# Altium integrated library TI Microcontroller MSP430 16-bit Ultra-Low Power.IntLib: 1463 symbols (part 95 of 130)
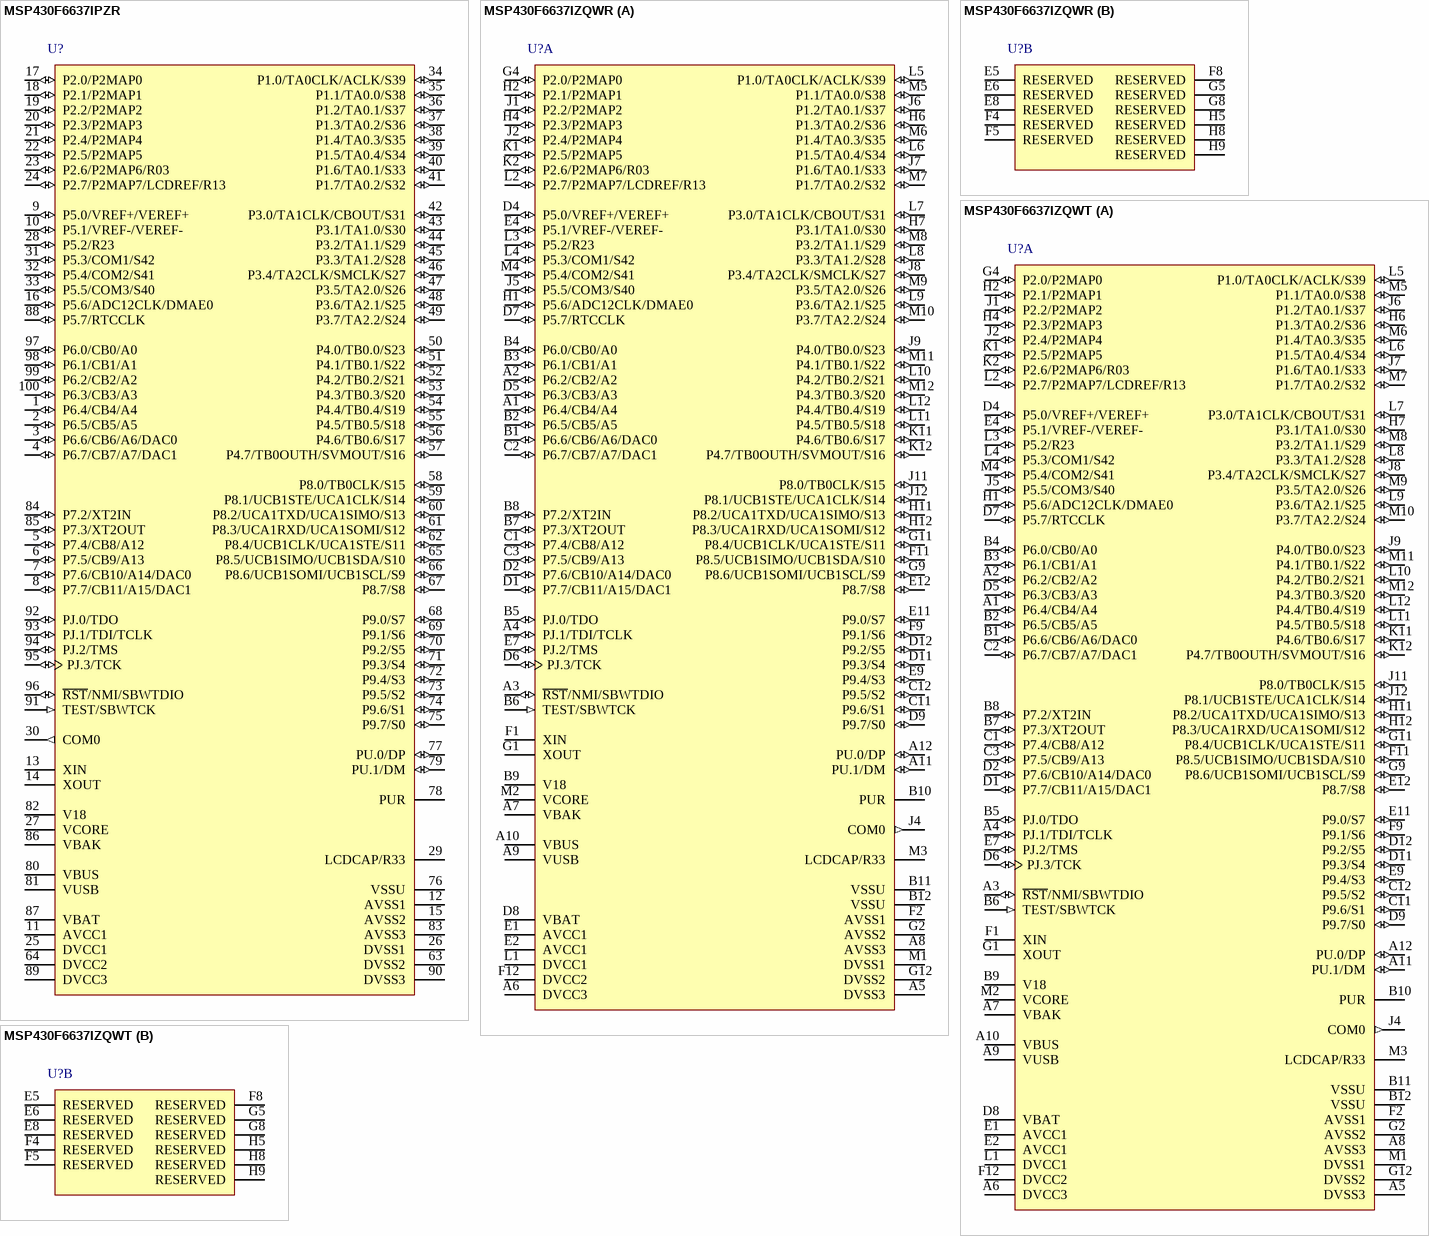
[diagram p283: symbols MSP430F6637IPZR to MSP430F6637IZQWT]

## MSP430F6637IZQWT
designator U?
20 MHz Mixed Signal Microcontroller with 192 KB Flash, 16384 B SRAM and 74 GPIOs, -40 to 85 degC, 113-pin BGA (ZQW), Green (RoHS & no Sb/Br); Manufacturer: Texas Instruments; PartNumber: MSP430F6637IZQWT; ADC: 12-bit SAR; ADC Channels: 16; Brown Out Reset: Yes; DAC: 2; DMA: 3; Flash(KB): 192; Frequency(MHz): 20; GPIO: 74; Multiplier: 32x32; Real-Time Clock: Yes, with battery backup; SRAM(B): 16384; SubFamily: 6 Series with LCD; Timers - 16-bit: 4; USB: 1; DatasheetVersion: SLAS566C; PackageVersion: 4204599-3/D; PackageReference: ZQW113; PackageDescription: 113-Pin Plastic Ball Grid Array Package, Body 7 x 7 mm, Pitch 0.5 mm; Supplier 1: Digi-Key; Supplier Part Number 1: MSP430F6637IZQWR-ND; Supplier 2: Newark; Supplier Part Number 2: 76T6244; Supplier 3: Mouser; Supplier Part Number 3: 595-MSP430F6637IZQWR; Comparators: Yes; Eco-Plan: Green (RoHS & no Sb/Br); SVS: Yes; Temp Sensor: Yes; USCI_A (UART/LIN/IrDA/SPI): 2; USCI_B (I2C & SPI): 2; Watchdog: Yes; Mounting Technology: Surface Mount; Code_JEDEC: MO-225; ComponentLink1Description: Manufacturer URL; ComponentLink1URL: http://www.ti.com/; ComponentLink2Description: Datasheet; ComponentLink2URL: http://www.ti.com/general/docs/lit/getliterature.tsp?genericPartNumber=MSP430F6637&fileType=pdf; ComponentLink3Description: Package Specification; ComponentLink3URL: http://www.ti.com/lit/ml/mpbg674/mpbg674.pdf
footprint TI-ZQW113 (BGA, 113-Balls, Body 7x7mm, Pitch 0.5mm)
part A pins: A1 P6.4/CB4/A4 (io), A2 P6.2/CB2/A2 (io), A3 ~{RST}/NMI/SBWTDIO (io), A4 PJ.1/TDI/TCLK (io), A5 DVSS3 (power) "Digital ground supply", A6 DVCC3 (power) "Digital power supply", A7 VBAK "Capacitor for backup subsystem. Do not load this pin externally. For capacitor values, see CBAK in Recommended Operating Conditions.", A8 AVSS3 (power) "Analog ground supply", A9 VUSB (power) "USB LDO output", A10 VBUS (power) "USB LDO input (connect to USB power source)", A11 PU.1/DM (io), A12 PU.0/DP (io), B1 P6.6/CB6/A6/DAC0 (io), B2 P6.5/CB5/A5 (io), B3 P6.1/CB1/A1 (io), B4 P6.0/CB0/A0 (io), B5 PJ.0/TDO (io), B6 TEST/SBWTCK (in), B7 P7.3/XT2OUT (io), B8 P7.2/XT2IN (io), B9 V18 "USB regulated power (internal use only, no external current loading)", B10 PUR "USB pullup resistor pin (open drain). The voltage level at the PUR pin is used to the default USB BSL. Recommended 1-Mohm resistor to ground.", B11 VSSU (power) "USB PHY ground supply", B12 VSSU (power) "USB PHY ground supply", C1 P7.4/CB8/A12 (io), C2 P6.7/CB7/A7/DAC1 (io), C3 P7.5/CB9/A13 (io), C11 P9.6/S1 (io), C12 P9.5/S2 (io), D1 P7.7/CB11/A15/DAC1 (io), D2 P7.6/CB10/A14/DAC0 (io), D4 P5.0/VREF+/VEREF+ (io), D5 P6.3/CB3/A3 (io), D6 PJ.3/TCK (io), D7 P5.7/RTCCLK (io), D8 VBAT (power) "Backup or secondary supply voltage. If backup voltage is not supplied, connect to DVCC externally.", D9 P9.7/S0 (io), D11 P9.3/S4 (io), D12 P9.2/S5 (io), E1 AVCC1 (power) "Analog power supply", E2 AVCC1 (power) "Analog power supply", E4 P5.1/VREF-/VEREF- (io), E7 PJ.2/TMS (io), E9 P9.4/S3 (io), E11 P9.0/S7 (io), E12 P8.7/S8 (io), F1 XIN "Input terminal for crystal oscillator XT1", F2 AVSS1 (power) "Analog ground supply", F9 P9.1/S6 (io), F11 P8.5/UCB1SIMO/UCB1SDA/S10 (io), F12 DVCC2 (power) "Digital power supply", G1 XOUT "Output terminal of crystal oscillator XT1", G2 AVSS2 (power) "Analog ground supply", G4 P2.0/P2MAP0 (io), G9 P8.6/UCB1SOMI/UCB1SCL/S9 (io), G11 P8.4/UCB1CLK/UCA1STE/S11 (io), G12 DVSS2 (power) "Digital ground supply", H1 P5.6/ADC12CLK/DMAE0 (io), H2 P2.1/P2MAP1 (io), H4 P2.3/P2MAP3 (io), H6 P1.3/TA0.2/S36 (io), H7 P3.1/TA1.0/S30 (io), H11 P8.2/UCA1TXD/UCA1SIMO/S13 (io), H12 P8.3/UCA1RXD/UCA1SOMI/S12 (io), J1 P2.2/P2MAP2 (io), J2 P2.4/P2MAP4 (io), J4 COM0 (out) "LCD common output COM0 for LCD backplane", J5 P5.5/COM3/S40 (io), J6 P1.2/TA0.1/S37 (io), J7 P1.6/TA0.1/S33 (io), J8 P3.4/TA2CLK/SMCLK/S27 (io), J9 P4.0/TB0.0/S23 (io), J11 P8.0/TB0CLK/S15 (io), J12 P8.1/UCB1STE/UCA1CLK/S14 (io), K1 P2.5/P2MAP5 (io), K2 P2.6/P2MAP6/R03 (io), K11 P4.6/TB0.6/S17 (io), K12 P4.7/TB0OUTH/SVMOUT/S16 (io), L1 DVCC1 (power) "Digital power supply", L2 P2.7/P2MAP7/LCDREF/R13 (io), L3 P5.2/R23 (io), L4 P5.3/COM1/S42 (io), L5 P1.0/TA0CLK/ACLK/S39 (io), L6 P1.5/TA0.4/S34 (io), L7 P3.0/TA1CLK/CBOUT/S31 (io), L8 P3.3/TA1.2/S28 (io), L9 P3.6/TA2.1/S25 (io), L10 P4.2/TB0.2/S21 (io), L11 P4.5/TB0.5/S18 (io), L12 P4.4/TB0.4/S19 (io), M1 DVSS1 (power) "Digital ground supply", M2 VCORE "Regulated core power supply (internal use only, no external current loading)", M3 LCDCAP/R33, M4 P5.4/COM2/S41 (io), M5 P1.1/TA0.0/S38 (io), M6 P1.4/TA0.3/S35 (io), M7 P1.7/TA0.2/S32 (io), M8 P3.2/TA1.1/S29 (io), M9 P3.5/TA2.0/S26 (io), M10 P3.7/TA2.2/S24 (io), M11 P4.1/TB0.1/S22 (io), M12 P4.3/TB0.3/S20 (io)
part B pins: E5 RESERVED "Reserved. It is recommended to connect to ground (DVSS, AVSS).", E6 RESERVED "Reserved. It is recommended to connect to ground (DVSS, AVSS).", E8 RESERVED "Reserved. It is recommended to connect to ground (DVSS, AVSS).", F4 RESERVED "Reserved. It is recommended to connect to ground (DVSS, AVSS).", F5 RESERVED "Reserved. It is recommended to connect to ground (DVSS, AVSS).", F8 RESERVED "Reserved. It is recommended to connect to ground (DVSS, AVSS).", G5 RESERVED "Reserved. It is recommended to connect to ground (DVSS, AVSS).", G8 RESERVED "Reserved. It is recommended to connect to ground (DVSS, AVSS).", H5 RESERVED "Reserved. It is recommended to connect to ground (DVSS, AVSS).", H8 RESERVED "Reserved. It is recommended to connect to ground (DVSS, AVSS).", H9 RESERVED "Reserved. It is recommended to connect to ground (DVSS, AVSS)."

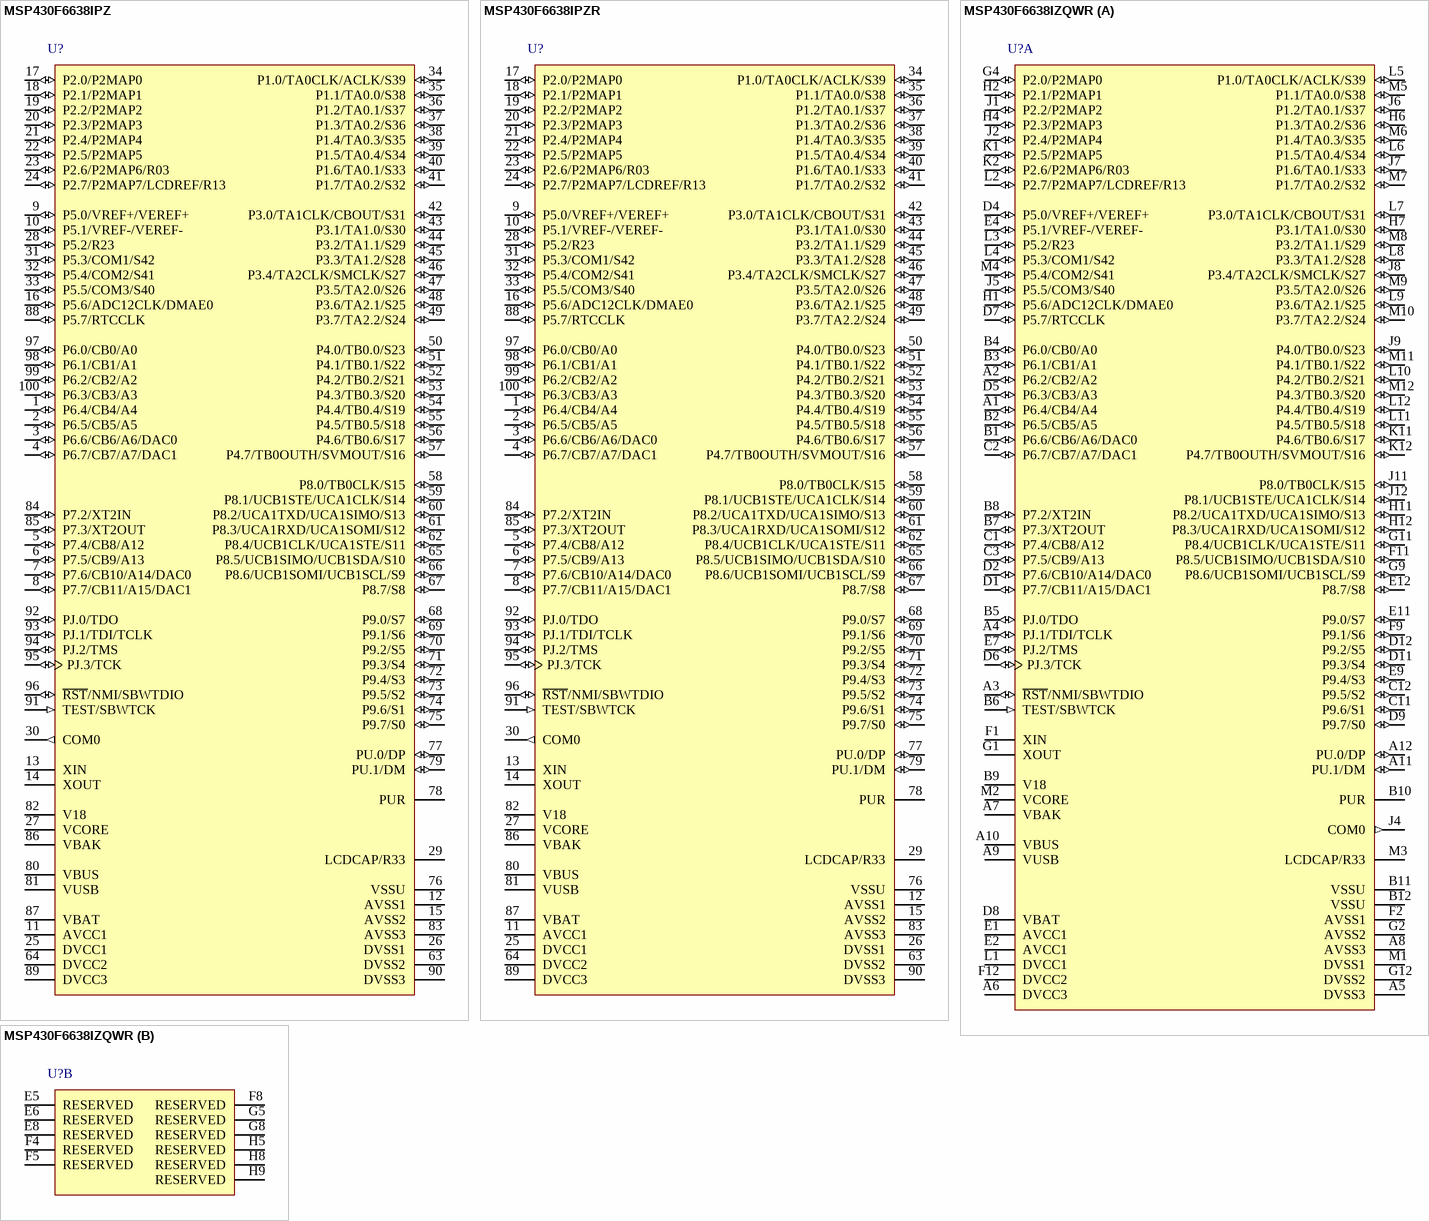
[diagram p154: symbols MSP430F6638IPZ to MSP430F6638IZQWR]

## MSP430F6638IPZ
designator U?
20 MHz Mixed Signal Microcontroller with 256 KB Flash, 16384 B SRAM and 74 GPIOs, -40 to 85 degC, 100-pin QFP (PZ), Green (RoHS & no Sb/Br); Manufacturer: Texas Instruments; PartNumber: MSP430F6638IPZ; ADC: 12-bit SAR; ADC Channels: 16; Brown Out Reset: Yes; DAC: 2; DMA: 3; Flash(KB): 256; Frequency(MHz): 20; GPIO: 74; Multiplier: 32x32; Real-Time Clock: Yes, with battery backup; SRAM(B): 16384; SubFamily: 6 Series with LCD; Timers - 16-bit: 4; USB: 1; DatasheetVersion: SLAS566C; PackageVersion: 4040149/B; PackageReference: PZ100; PackageDescription: 100-Pin Plastic Flat Pack, Body 14 x 14 mm, Pitch 0.5 mm; Supplier 1: Mouser; Supplier Part Number 1: N/A; Comparators: Yes; Eco-Plan: Green (RoHS & no Sb/Br); SVS: Yes; Temp Sensor: Yes; USCI_A (UART/LIN/IrDA/SPI): 2; USCI_B (I2C & SPI): 2; Watchdog: Yes; Mounting Technology: Surface Mount; Code_JEDEC: MS-026; ComponentLink1Description: Manufacturer URL; ComponentLink1URL: http://www.ti.com/; ComponentLink2Description: Datasheet; ComponentLink2URL: http://www.ti.com/general/docs/lit/getliterature.tsp?genericPartNumber=MSP430F6638&fileType=pdf; ComponentLink3Description: Package Specification; ComponentLink3URL: http://www.ti.com/lit/ml/mtqf013a/mtqf013a.pdf
footprint TI-PZ100_N (QFP, 100-Leads, Body 14x14mm, Pitch 0.5mm, IPC Medium Density)
pins: 1 P6.4/CB4/A4 (io), 2 P6.5/CB5/A5 (io), 3 P6.6/CB6/A6/DAC0 (io), 4 P6.7/CB7/A7/DAC1 (io), 5 P7.4/CB8/A12 (io), 6 P7.5/CB9/A13 (io), 7 P7.6/CB10/A14/DAC0 (io), 8 P7.7/CB11/A15/DAC1 (io), 9 P5.0/VREF+/VEREF+ (io), 10 P5.1/VREF-/VEREF- (io), 11 AVCC1 (power) "Analog power supply", 12 AVSS1 (power) "Analog ground supply", 13 XIN "Input terminal for crystal oscillator XT1", 14 XOUT "Output terminal of crystal oscillator XT1", 15 AVSS2 (power) "Analog ground supply", 16 P5.6/ADC12CLK/DMAE0 (io), 17 P2.0/P2MAP0 (io), 18 P2.1/P2MAP1 (io), 19 P2.2/P2MAP2 (io), 20 P2.3/P2MAP3 (io), 21 P2.4/P2MAP4 (io), 22 P2.5/P2MAP5 (io), 23 P2.6/P2MAP6/R03 (io), 24 P2.7/P2MAP7/LCDREF/R13 (io), 25 DVCC1 (power) "Digital power supply", 26 DVSS1 (power) "Digital ground supply", 27 VCORE "Regulated core power supply (internal use only, no external current loading)", 28 P5.2/R23 (io), 29 LCDCAP/R33, 30 COM0 (out) "LCD common output COM0 for LCD backplane", 31 P5.3/COM1/S42 (io), 32 P5.4/COM2/S41 (io), 33 P5.5/COM3/S40 (io), 34 P1.0/TA0CLK/ACLK/S39 (io), 35 P1.1/TA0.0/S38 (io), 36 P1.2/TA0.1/S37 (io), 37 P1.3/TA0.2/S36 (io), 38 P1.4/TA0.3/S35 (io), 39 P1.5/TA0.4/S34 (io), 40 P1.6/TA0.1/S33 (io), 41 P1.7/TA0.2/S32 (io), 42 P3.0/TA1CLK/CBOUT/S31 (io), 43 P3.1/TA1.0/S30 (io), 44 P3.2/TA1.1/S29 (io), 45 P3.3/TA1.2/S28 (io), 46 P3.4/TA2CLK/SMCLK/S27 (io), 47 P3.5/TA2.0/S26 (io), 48 P3.6/TA2.1/S25 (io), 49 P3.7/TA2.2/S24 (io), 50 P4.0/TB0.0/S23 (io), 51 P4.1/TB0.1/S22 (io), 52 P4.2/TB0.2/S21 (io), 53 P4.3/TB0.3/S20 (io), 54 P4.4/TB0.4/S19 (io), 55 P4.5/TB0.5/S18 (io), 56 P4.6/TB0.6/S17 (io), 57 P4.7/TB0OUTH/SVMOUT/S16 (io), 58 P8.0/TB0CLK/S15 (io), 59 P8.1/UCB1STE/UCA1CLK/S14 (io), 60 P8.2/UCA1TXD/UCA1SIMO/S13 (io), 61 P8.3/UCA1RXD/UCA1SOMI/S12 (io), 62 P8.4/UCB1CLK/UCA1STE/S11 (io), 63 DVSS2 (power) "Digital ground supply", 64 DVCC2 (power) "Digital power supply", 65 P8.5/UCB1SIMO/UCB1SDA/S10 (io), 66 P8.6/UCB1SOMI/UCB1SCL/S9 (io), 67 P8.7/S8 (io), 68 P9.0/S7 (io), 69 P9.1/S6 (io), 70 P9.2/S5 (io), 71 P9.3/S4 (io), 72 P9.4/S3 (io), 73 P9.5/S2 (io), 74 P9.6/S1 (io), 75 P9.7/S0 (io), 76 VSSU (power) "USB PHY ground supply", 77 PU.0/DP (io), 78 PUR "USB pullup resistor pin (open drain). The voltage level at the PUR pin is used to PUR pin is used to invoke the default USB BSL. Recommended 1-Mohm resistor to ground.", 79 PU.1/DM (io), 80 VBUS (power) "USB LDO input (connect to USB power source)", 81 VUSB (power) "USB LDO output", 82 V18 "USB regulated power (internal use only, no external current loading)", 83 AVSS3 (power) "Analog ground supply", 84 P7.2/XT2IN (io), 85 P7.3/XT2OUT (io), 86 VBAK "Capacitor for backup subsystem. Do not load this pin externally. For capacitor values, see CBAK in Recommended Operating Conditions.", 87 VBAT (power) "Backup or secondary supply voltage. If backup voltage is not supplied, connect to DVCC externally.", 88 P5.7/RTCCLK (io), 89 DVCC3 (power) "Digital power supply", 90 DVSS3 (power) "Digital ground supply", 91 TEST/SBWTCK (in), 92 PJ.0/TDO (io), 93 PJ.1/TDI/TCLK (io), 94 PJ.2/TMS (io), 95 PJ.3/TCK (io), 96 ~{RST}/NMI/SBWTDIO (io), 97 P6.0/CB0/A0 (io), 98 P6.1/CB1/A1 (io), 99 P6.2/CB2/A2 (io), 100 P6.3/CB3/A3 (io)

## MSP430F6638IPZR
designator U?
20 MHz Mixed Signal Microcontroller with 256 KB Flash, 16384 B SRAM and 74 GPIOs, -40 to 85 degC, 100-pin QFP (PZ), Green (RoHS & no Sb/Br); Manufacturer: Texas Instruments; PartNumber: MSP430F6638IPZR; ADC: 12-bit SAR; ADC Channels: 16; Brown Out Reset: Yes; DAC: 2; DMA: 3; Flash(KB): 256; Frequency(MHz): 20; GPIO: 74; Multiplier: 32x32; Real-Time Clock: Yes, with battery backup; SRAM(B): 16384; SubFamily: 6 Series with LCD; Timers - 16-bit: 4; USB: 1; DatasheetVersion: SLAS566C; PackageVersion: 4040149/B; PackageReference: PZ100; PackageDescription: 100-Pin Plastic Flat Pack, Body 14 x 14 mm, Pitch 0.5 mm; Supplier 1: Digi-Key; Supplier Part Number 1: MSP430F6638IPZ-ND; Supplier 2: Newark; Supplier Part Number 2: 21T2329; Supplier 3: Mouser; Supplier Part Number 3: 595-MSP430F6638IPZ; Comparators: Yes; Eco-Plan: Green (RoHS & no Sb/Br); SVS: Yes; Temp Sensor: Yes; USCI_A (UART/LIN/IrDA/SPI): 2; USCI_B (I2C & SPI): 2; Watchdog: Yes; Mounting Technology: Surface Mount; Code_JEDEC: MS-026; ComponentLink1Description: Manufacturer URL; ComponentLink1URL: http://www.ti.com/; ComponentLink2Description: Datasheet; ComponentLink2URL: http://www.ti.com/general/docs/lit/getliterature.tsp?genericPartNumber=MSP430F6638&fileType=pdf; ComponentLink3Description: Package Specification; ComponentLink3URL: http://www.ti.com/lit/ml/mtqf013a/mtqf013a.pdf
footprint TI-PZ100_N (QFP, 100-Leads, Body 14x14mm, Pitch 0.5mm, IPC Medium Density)
pins: 1 P6.4/CB4/A4 (io), 2 P6.5/CB5/A5 (io), 3 P6.6/CB6/A6/DAC0 (io), 4 P6.7/CB7/A7/DAC1 (io), 5 P7.4/CB8/A12 (io), 6 P7.5/CB9/A13 (io), 7 P7.6/CB10/A14/DAC0 (io), 8 P7.7/CB11/A15/DAC1 (io), 9 P5.0/VREF+/VEREF+ (io), 10 P5.1/VREF-/VEREF- (io), 11 AVCC1 (power) "Analog power supply", 12 AVSS1 (power) "Analog ground supply", 13 XIN "Input terminal for crystal oscillator XT1", 14 XOUT "Output terminal of crystal oscillator XT1", 15 AVSS2 (power) "Analog ground supply", 16 P5.6/ADC12CLK/DMAE0 (io), 17 P2.0/P2MAP0 (io), 18 P2.1/P2MAP1 (io), 19 P2.2/P2MAP2 (io), 20 P2.3/P2MAP3 (io), 21 P2.4/P2MAP4 (io), 22 P2.5/P2MAP5 (io), 23 P2.6/P2MAP6/R03 (io), 24 P2.7/P2MAP7/LCDREF/R13 (io), 25 DVCC1 (power) "Digital power supply", 26 DVSS1 (power) "Digital ground supply", 27 VCORE "Regulated core power supply (internal use only, no external current loading)", 28 P5.2/R23 (io), 29 LCDCAP/R33, 30 COM0 (out) "LCD common output COM0 for LCD backplane", 31 P5.3/COM1/S42 (io), 32 P5.4/COM2/S41 (io), 33 P5.5/COM3/S40 (io), 34 P1.0/TA0CLK/ACLK/S39 (io), 35 P1.1/TA0.0/S38 (io), 36 P1.2/TA0.1/S37 (io), 37 P1.3/TA0.2/S36 (io), 38 P1.4/TA0.3/S35 (io), 39 P1.5/TA0.4/S34 (io), 40 P1.6/TA0.1/S33 (io), 41 P1.7/TA0.2/S32 (io), 42 P3.0/TA1CLK/CBOUT/S31 (io), 43 P3.1/TA1.0/S30 (io), 44 P3.2/TA1.1/S29 (io), 45 P3.3/TA1.2/S28 (io), 46 P3.4/TA2CLK/SMCLK/S27 (io), 47 P3.5/TA2.0/S26 (io), 48 P3.6/TA2.1/S25 (io), 49 P3.7/TA2.2/S24 (io), 50 P4.0/TB0.0/S23 (io), 51 P4.1/TB0.1/S22 (io), 52 P4.2/TB0.2/S21 (io), 53 P4.3/TB0.3/S20 (io), 54 P4.4/TB0.4/S19 (io), 55 P4.5/TB0.5/S18 (io), 56 P4.6/TB0.6/S17 (io), 57 P4.7/TB0OUTH/SVMOUT/S16 (io), 58 P8.0/TB0CLK/S15 (io), 59 P8.1/UCB1STE/UCA1CLK/S14 (io), 60 P8.2/UCA1TXD/UCA1SIMO/S13 (io), 61 P8.3/UCA1RXD/UCA1SOMI/S12 (io), 62 P8.4/UCB1CLK/UCA1STE/S11 (io), 63 DVSS2 (power) "Digital ground supply", 64 DVCC2 (power) "Digital power supply", 65 P8.5/UCB1SIMO/UCB1SDA/S10 (io), 66 P8.6/UCB1SOMI/UCB1SCL/S9 (io), 67 P8.7/S8 (io), 68 P9.0/S7 (io), 69 P9.1/S6 (io), 70 P9.2/S5 (io), 71 P9.3/S4 (io), 72 P9.4/S3 (io), 73 P9.5/S2 (io), 74 P9.6/S1 (io), 75 P9.7/S0 (io), 76 VSSU (power) "USB PHY ground supply", 77 PU.0/DP (io), 78 PUR "USB pullup resistor pin (open drain). The voltage level at the PUR pin is used to PUR pin is used to invoke the default USB BSL. Recommended 1-Mohm resistor to ground.", 79 PU.1/DM (io), 80 VBUS (power) "USB LDO input (connect to USB power source)", 81 VUSB (power) "USB LDO output", 82 V18 "USB regulated power (internal use only, no external current loading)", 83 AVSS3 (power) "Analog ground supply", 84 P7.2/XT2IN (io), 85 P7.3/XT2OUT (io), 86 VBAK "Capacitor for backup subsystem. Do not load this pin externally. For capacitor values, see CBAK in Recommended Operating Conditions.", 87 VBAT (power) "Backup or secondary supply voltage. If backup voltage is not supplied, connect to DVCC externally.", 88 P5.7/RTCCLK (io), 89 DVCC3 (power) "Digital power supply", 90 DVSS3 (power) "Digital ground supply", 91 TEST/SBWTCK (in), 92 PJ.0/TDO (io), 93 PJ.1/TDI/TCLK (io), 94 PJ.2/TMS (io), 95 PJ.3/TCK (io), 96 ~{RST}/NMI/SBWTDIO (io), 97 P6.0/CB0/A0 (io), 98 P6.1/CB1/A1 (io), 99 P6.2/CB2/A2 (io), 100 P6.3/CB3/A3 (io)

## MSP430F6638IZQWR
designator U?
20 MHz Mixed Signal Microcontroller with 256 KB Flash, 16384 B SRAM and 74 GPIOs, -40 to 85 degC, 113-pin BGA (ZQW), Green (RoHS & no Sb/Br); Manufacturer: Texas Instruments; PartNumber: MSP430F6638IZQWR; ADC: 12-bit SAR; ADC Channels: 16; Brown Out Reset: Yes; DAC: 2; DMA: 3; Flash(KB): 256; Frequency(MHz): 20; GPIO: 74; Multiplier: 32x32; Real-Time Clock: Yes, with battery backup; SRAM(B): 16384; SubFamily: 6 Series with LCD; Timers - 16-bit: 4; USB: 1; DatasheetVersion: SLAS566C; PackageVersion: 4204599-3/D; PackageReference: ZQW113; PackageDescription: 113-Pin Plastic Ball Grid Array Package, Body 7 x 7 mm, Pitch 0.5 mm; Supplier 1: Digi-Key; Supplier Part Number 1: 296-29470-2-ND; Supplier 2: Digi-Key; Supplier Part Number 2: 296-29470-1-ND; Supplier 3: Digi-Key; Supplier Part Number 3: 296-29470-6-ND; Supplier 4: Farnell; Supplier Part Number 4: 2070274; Supplier 5: Newark; Supplier Part Number 5: 73T9353; Supplier 6: Newark; Supplier Part Number 6: 13T4431; Supplier 7: Mouser; Supplier Part Number 7: 595-MSP430F6638IPZR; Comparators: Yes; Eco-Plan: Green (RoHS & no Sb/Br); SVS: Yes; Temp Sensor: Yes; USCI_A (UART/LIN/IrDA/SPI): 2; USCI_B (I2C & SPI): 2; Watchdog: Yes; Mounting Technology: Surface Mount; Code_JEDEC: MO-225; ComponentLink1Description: Manufacturer URL; ComponentLink1URL: http://www.ti.com/; ComponentLink2Description: Datasheet; ComponentLink2URL: http://www.ti.com/general/docs/lit/getliterature.tsp?genericPartNumber=MSP430F6638&fileType=pdf; ComponentLink3Description: Package Specification; ComponentLink3URL: http://www.ti.com/lit/ml/mpbg674/mpbg674.pdf
footprint TI-ZQW113 (BGA, 113-Balls, Body 7x7mm, Pitch 0.5mm)
part A pins: A1 P6.4/CB4/A4 (io), A2 P6.2/CB2/A2 (io), A3 ~{RST}/NMI/SBWTDIO (io), A4 PJ.1/TDI/TCLK (io), A5 DVSS3 (power) "Digital ground supply", A6 DVCC3 (power) "Digital power supply", A7 VBAK "Capacitor for backup subsystem. Do not load this pin externally. For capacitor values, see CBAK in Recommended Operating Conditions.", A8 AVSS3 (power) "Analog ground supply", A9 VUSB (power) "USB LDO output", A10 VBUS (power) "USB LDO input (connect to USB power source)", A11 PU.1/DM (io), A12 PU.0/DP (io), B1 P6.6/CB6/A6/DAC0 (io), B2 P6.5/CB5/A5 (io), B3 P6.1/CB1/A1 (io), B4 P6.0/CB0/A0 (io), B5 PJ.0/TDO (io), B6 TEST/SBWTCK (in), B7 P7.3/XT2OUT (io), B8 P7.2/XT2IN (io), B9 V18 "USB regulated power (internal use only, no external current loading)", B10 PUR "USB pullup resistor pin (open drain). The voltage level at the PUR pin is used to the default USB BSL. Recommended 1-Mohm resistor to ground.", B11 VSSU (power) "USB PHY ground supply", B12 VSSU (power) "USB PHY ground supply", C1 P7.4/CB8/A12 (io), C2 P6.7/CB7/A7/DAC1 (io), C3 P7.5/CB9/A13 (io), C11 P9.6/S1 (io), C12 P9.5/S2 (io), D1 P7.7/CB11/A15/DAC1 (io), D2 P7.6/CB10/A14/DAC0 (io), D4 P5.0/VREF+/VEREF+ (io), D5 P6.3/CB3/A3 (io), D6 PJ.3/TCK (io), D7 P5.7/RTCCLK (io), D8 VBAT (power) "Backup or secondary supply voltage. If backup voltage is not supplied, connect to DVCC externally.", D9 P9.7/S0 (io), D11 P9.3/S4 (io), D12 P9.2/S5 (io), E1 AVCC1 (power) "Analog power supply", E2 AVCC1 (power) "Analog power supply", E4 P5.1/VREF-/VEREF- (io), E7 PJ.2/TMS (io), E9 P9.4/S3 (io), E11 P9.0/S7 (io), E12 P8.7/S8 (io), F1 XIN "Input terminal for crystal oscillator XT1", F2 AVSS1 (power) "Analog ground supply", F9 P9.1/S6 (io), F11 P8.5/UCB1SIMO/UCB1SDA/S10 (io), F12 DVCC2 (power) "Digital power supply", G1 XOUT "Output terminal of crystal oscillator XT1", G2 AVSS2 (power) "Analog ground supply", G4 P2.0/P2MAP0 (io), G9 P8.6/UCB1SOMI/UCB1SCL/S9 (io), G11 P8.4/UCB1CLK/UCA1STE/S11 (io), G12 DVSS2 (power) "Digital ground supply", H1 P5.6/ADC12CLK/DMAE0 (io), H2 P2.1/P2MAP1 (io), H4 P2.3/P2MAP3 (io), H6 P1.3/TA0.2/S36 (io), H7 P3.1/TA1.0/S30 (io), H11 P8.2/UCA1TXD/UCA1SIMO/S13 (io), H12 P8.3/UCA1RXD/UCA1SOMI/S12 (io), J1 P2.2/P2MAP2 (io), J2 P2.4/P2MAP4 (io), J4 COM0 (out) "LCD common output COM0 for LCD backplane", J5 P5.5/COM3/S40 (io), J6 P1.2/TA0.1/S37 (io), J7 P1.6/TA0.1/S33 (io), J8 P3.4/TA2CLK/SMCLK/S27 (io), J9 P4.0/TB0.0/S23 (io), J11 P8.0/TB0CLK/S15 (io), J12 P8.1/UCB1STE/UCA1CLK/S14 (io), K1 P2.5/P2MAP5 (io), K2 P2.6/P2MAP6/R03 (io), K11 P4.6/TB0.6/S17 (io), K12 P4.7/TB0OUTH/SVMOUT/S16 (io), L1 DVCC1 (power) "Digital power supply", L2 P2.7/P2MAP7/LCDREF/R13 (io), L3 P5.2/R23 (io), L4 P5.3/COM1/S42 (io), L5 P1.0/TA0CLK/ACLK/S39 (io), L6 P1.5/TA0.4/S34 (io), L7 P3.0/TA1CLK/CBOUT/S31 (io), L8 P3.3/TA1.2/S28 (io), L9 P3.6/TA2.1/S25 (io), L10 P4.2/TB0.2/S21 (io), L11 P4.5/TB0.5/S18 (io), L12 P4.4/TB0.4/S19 (io), M1 DVSS1 (power) "Digital ground supply", M2 VCORE "Regulated core power supply (internal use only, no external current loading)", M3 LCDCAP/R33, M4 P5.4/COM2/S41 (io), M5 P1.1/TA0.0/S38 (io), M6 P1.4/TA0.3/S35 (io), M7 P1.7/TA0.2/S32 (io), M8 P3.2/TA1.1/S29 (io), M9 P3.5/TA2.0/S26 (io), M10 P3.7/TA2.2/S24 (io), M11 P4.1/TB0.1/S22 (io), M12 P4.3/TB0.3/S20 (io)
part B pins: E5 RESERVED "Reserved. It is recommended to connect to ground (DVSS, AVSS).", E6 RESERVED "Reserved. It is recommended to connect to ground (DVSS, AVSS).", E8 RESERVED "Reserved. It is recommended to connect to ground (DVSS, AVSS).", F4 RESERVED "Reserved. It is recommended to connect to ground (DVSS, AVSS).", F5 RESERVED "Reserved. It is recommended to connect to ground (DVSS, AVSS).", F8 RESERVED "Reserved. It is recommended to connect to ground (DVSS, AVSS).", G5 RESERVED "Reserved. It is recommended to connect to ground (DVSS, AVSS).", G8 RESERVED "Reserved. It is recommended to connect to ground (DVSS, AVSS).", H5 RESERVED "Reserved. It is recommended to connect to ground (DVSS, AVSS).", H8 RESERVED "Reserved. It is recommended to connect to ground (DVSS, AVSS).", H9 RESERVED "Reserved. It is recommended to connect to ground (DVSS, AVSS)."

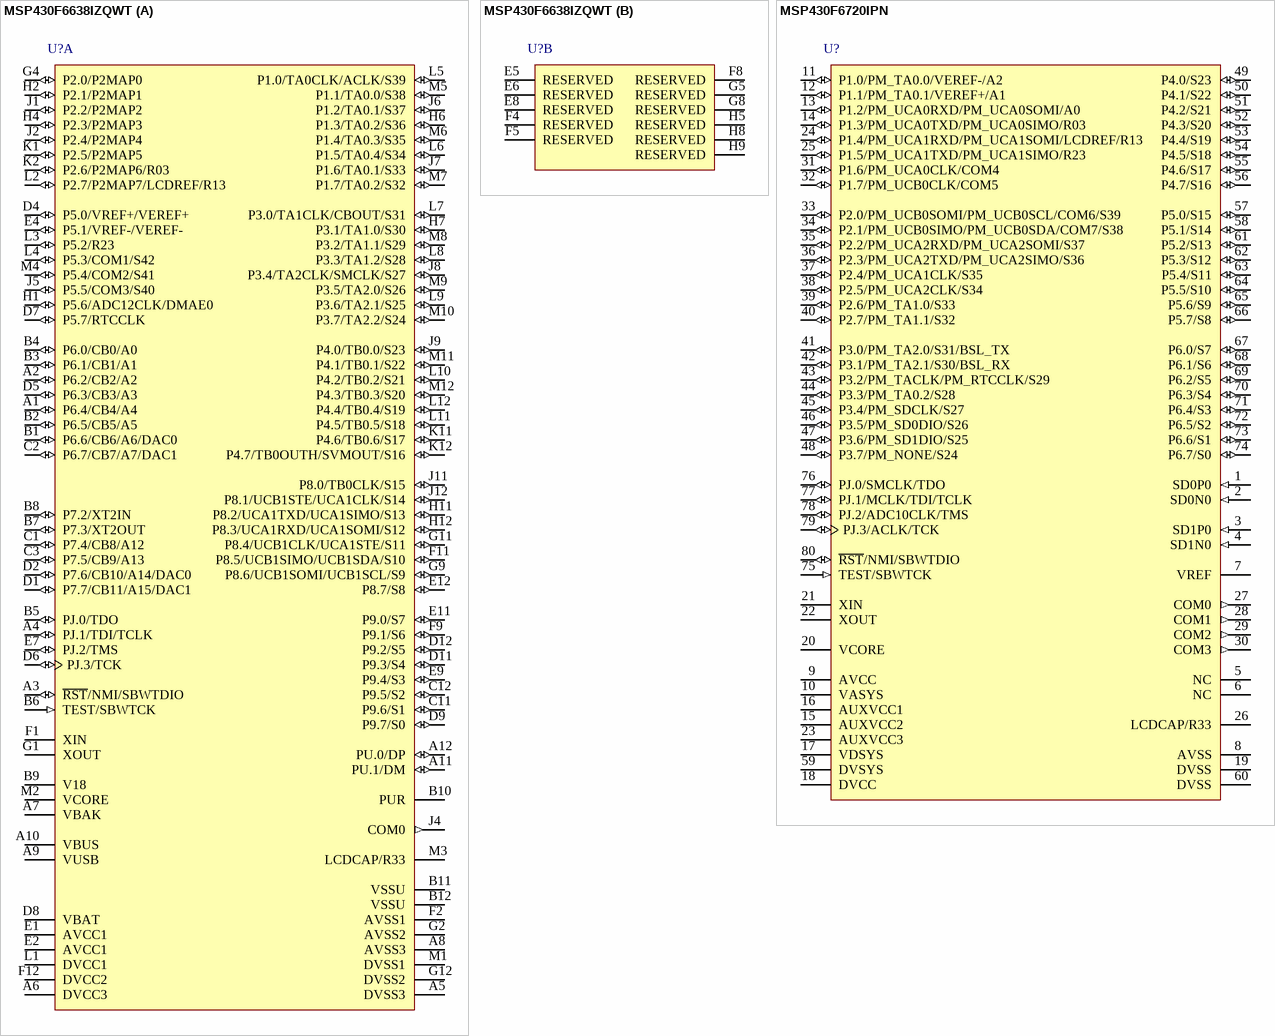
[diagram p155: symbols MSP430F6638IZQWT to MSP430F6720IPN]

## MSP430F6638IZQWT
designator U?
20 MHz Mixed Signal Microcontroller with 256 KB Flash, 16384 B SRAM and 74 GPIOs, -40 to 85 degC, 113-pin BGA (ZQW), Green (RoHS & no Sb/Br); Manufacturer: Texas Instruments; PartNumber: MSP430F6638IZQWT; ADC: 12-bit SAR; ADC Channels: 16; Brown Out Reset: Yes; DAC: 2; DMA: 3; Flash(KB): 256; Frequency(MHz): 20; GPIO: 74; Multiplier: 32x32; Real-Time Clock: Yes, with battery backup; SRAM(B): 16384; SubFamily: 6 Series with LCD; Timers - 16-bit: 4; USB: 1; DatasheetVersion: SLAS566C; PackageVersion: 4204599-3/D; PackageReference: ZQW113; PackageDescription: 113-Pin Plastic Ball Grid Array Package, Body 7 x 7 mm, Pitch 0.5 mm; Supplier 1: Digi-Key; Supplier Part Number 1: 296-29471-2-ND; Supplier 2: Digi-Key; Supplier Part Number 2: 296-29471-1-ND; Supplier 3: Digi-Key; Supplier Part Number 3: 296-29471-6-ND; Supplier 4: Farnell; Supplier Part Number 4: 2070271; Supplier 5: Newark; Supplier Part Number 5: 21T2331; Supplier 6: Mouser; Supplier Part Number 6: 595-MSP430F6638IZQWR; Comparators: Yes; Eco-Plan: Green (RoHS & no Sb/Br); SVS: Yes; Temp Sensor: Yes; USCI_A (UART/LIN/IrDA/SPI): 2; USCI_B (I2C & SPI): 2; Watchdog: Yes; Mounting Technology: Surface Mount; Code_JEDEC: MO-225; ComponentLink1Description: Manufacturer URL; ComponentLink1URL: http://www.ti.com/; ComponentLink2Description: Datasheet; ComponentLink2URL: http://www.ti.com/general/docs/lit/getliterature.tsp?genericPartNumber=MSP430F6638&fileType=pdf; ComponentLink3Description: Package Specification; ComponentLink3URL: http://www.ti.com/lit/ml/mpbg674/mpbg674.pdf
footprint TI-ZQW113 (BGA, 113-Balls, Body 7x7mm, Pitch 0.5mm)
part A pins: A1 P6.4/CB4/A4 (io), A2 P6.2/CB2/A2 (io), A3 ~{RST}/NMI/SBWTDIO (io), A4 PJ.1/TDI/TCLK (io), A5 DVSS3 (power) "Digital ground supply", A6 DVCC3 (power) "Digital power supply", A7 VBAK "Capacitor for backup subsystem. Do not load this pin externally. For capacitor values, see CBAK in Recommended Operating Conditions.", A8 AVSS3 (power) "Analog ground supply", A9 VUSB (power) "USB LDO output", A10 VBUS (power) "USB LDO input (connect to USB power source)", A11 PU.1/DM (io), A12 PU.0/DP (io), B1 P6.6/CB6/A6/DAC0 (io), B2 P6.5/CB5/A5 (io), B3 P6.1/CB1/A1 (io), B4 P6.0/CB0/A0 (io), B5 PJ.0/TDO (io), B6 TEST/SBWTCK (in), B7 P7.3/XT2OUT (io), B8 P7.2/XT2IN (io), B9 V18 "USB regulated power (internal use only, no external current loading)", B10 PUR "USB pullup resistor pin (open drain). The voltage level at the PUR pin is used to the default USB BSL. Recommended 1-Mohm resistor to ground.", B11 VSSU (power) "USB PHY ground supply", B12 VSSU (power) "USB PHY ground supply", C1 P7.4/CB8/A12 (io), C2 P6.7/CB7/A7/DAC1 (io), C3 P7.5/CB9/A13 (io), C11 P9.6/S1 (io), C12 P9.5/S2 (io), D1 P7.7/CB11/A15/DAC1 (io), D2 P7.6/CB10/A14/DAC0 (io), D4 P5.0/VREF+/VEREF+ (io), D5 P6.3/CB3/A3 (io), D6 PJ.3/TCK (io), D7 P5.7/RTCCLK (io), D8 VBAT (power) "Backup or secondary supply voltage. If backup voltage is not supplied, connect to DVCC externally.", D9 P9.7/S0 (io), D11 P9.3/S4 (io), D12 P9.2/S5 (io), E1 AVCC1 (power) "Analog power supply", E2 AVCC1 (power) "Analog power supply", E4 P5.1/VREF-/VEREF- (io), E7 PJ.2/TMS (io), E9 P9.4/S3 (io), E11 P9.0/S7 (io), E12 P8.7/S8 (io), F1 XIN "Input terminal for crystal oscillator XT1", F2 AVSS1 (power) "Analog ground supply", F9 P9.1/S6 (io), F11 P8.5/UCB1SIMO/UCB1SDA/S10 (io), F12 DVCC2 (power) "Digital power supply", G1 XOUT "Output terminal of crystal oscillator XT1", G2 AVSS2 (power) "Analog ground supply", G4 P2.0/P2MAP0 (io), G9 P8.6/UCB1SOMI/UCB1SCL/S9 (io), G11 P8.4/UCB1CLK/UCA1STE/S11 (io), G12 DVSS2 (power) "Digital ground supply", H1 P5.6/ADC12CLK/DMAE0 (io), H2 P2.1/P2MAP1 (io), H4 P2.3/P2MAP3 (io), H6 P1.3/TA0.2/S36 (io), H7 P3.1/TA1.0/S30 (io), H11 P8.2/UCA1TXD/UCA1SIMO/S13 (io), H12 P8.3/UCA1RXD/UCA1SOMI/S12 (io), J1 P2.2/P2MAP2 (io), J2 P2.4/P2MAP4 (io), J4 COM0 (out) "LCD common output COM0 for LCD backplane", J5 P5.5/COM3/S40 (io), J6 P1.2/TA0.1/S37 (io), J7 P1.6/TA0.1/S33 (io), J8 P3.4/TA2CLK/SMCLK/S27 (io), J9 P4.0/TB0.0/S23 (io), J11 P8.0/TB0CLK/S15 (io), J12 P8.1/UCB1STE/UCA1CLK/S14 (io), K1 P2.5/P2MAP5 (io), K2 P2.6/P2MAP6/R03 (io), K11 P4.6/TB0.6/S17 (io), K12 P4.7/TB0OUTH/SVMOUT/S16 (io), L1 DVCC1 (power) "Digital power supply", L2 P2.7/P2MAP7/LCDREF/R13 (io), L3 P5.2/R23 (io), L4 P5.3/COM1/S42 (io), L5 P1.0/TA0CLK/ACLK/S39 (io), L6 P1.5/TA0.4/S34 (io), L7 P3.0/TA1CLK/CBOUT/S31 (io), L8 P3.3/TA1.2/S28 (io), L9 P3.6/TA2.1/S25 (io), L10 P4.2/TB0.2/S21 (io), L11 P4.5/TB0.5/S18 (io), L12 P4.4/TB0.4/S19 (io), M1 DVSS1 (power) "Digital ground supply", M2 VCORE "Regulated core power supply (internal use only, no external current loading)", M3 LCDCAP/R33, M4 P5.4/COM2/S41 (io), M5 P1.1/TA0.0/S38 (io), M6 P1.4/TA0.3/S35 (io), M7 P1.7/TA0.2/S32 (io), M8 P3.2/TA1.1/S29 (io), M9 P3.5/TA2.0/S26 (io), M10 P3.7/TA2.2/S24 (io), M11 P4.1/TB0.1/S22 (io), M12 P4.3/TB0.3/S20 (io)
part B pins: E5 RESERVED "Reserved. It is recommended to connect to ground (DVSS, AVSS).", E6 RESERVED "Reserved. It is recommended to connect to ground (DVSS, AVSS).", E8 RESERVED "Reserved. It is recommended to connect to ground (DVSS, AVSS).", F4 RESERVED "Reserved. It is recommended to connect to ground (DVSS, AVSS).", F5 RESERVED "Reserved. It is recommended to connect to ground (DVSS, AVSS).", F8 RESERVED "Reserved. It is recommended to connect to ground (DVSS, AVSS).", G5 RESERVED "Reserved. It is recommended to connect to ground (DVSS, AVSS).", G8 RESERVED "Reserved. It is recommended to connect to ground (DVSS, AVSS).", H5 RESERVED "Reserved. It is recommended to connect to ground (DVSS, AVSS).", H8 RESERVED "Reserved. It is recommended to connect to ground (DVSS, AVSS).", H9 RESERVED "Reserved. It is recommended to connect to ground (DVSS, AVSS)."

## MSP430F6720IPN
designator U?
25 MHz Mixed Signal Microcontroller with 16 KB Flash, 1024 B SRAM and 72 GPIOs, -40 to 85 degC, 80-pin QFP (PN), Green (RoHS & no Sb/Br); Manufacturer: Texas Instruments; PartNumber: MSP430F6720IPN; ADC: 10-bit SAR; ADC Channels: 8; Brown Out Reset: Yes; DMA: 3; Flash(KB): 16; Frequency(MHz): 25; GPIO: 72; LCD Segments: 320; Multiplier: 32x32; Real-Time Clock: Yes, with battery backup; SRAM(B): 1024; SubFamily: 6 Series with LCD; Timers - 16-bit: 4; USCI_B (I2C & SPI): 1; DatasheetVersion: SLAS731B; PackageReference: PN80; PackageDescription: 80-Pin Plastic Quad Flat Pack, Body 12 x 12 mm, Pitch 0.5 mm; Supplier 1: Digi-Key; Supplier Part Number 1: 296-31694-2-ND; Supplier 2: Digi-Key; Supplier Part Number 2: 296-31694-1-ND; Supplier 3: Digi-Key; Supplier Part Number 3: 296-31694-6-ND; Supplier 4: Mouser; Supplier Part Number 4: 595-MSP430F6638IZQWT; Eco-Plan: Green (RoHS & no Sb/Br); Temp Sensor: Yes; USCI_A (UART/LIN/IrDA/SPI): 3; Watchdog: Yes; Mounting Technology: Surface Mount; Code_JEDEC: MS-018; ComponentLink1Description: Manufacturer URL; ComponentLink1URL: http://www.ti.com/; ComponentLink2Description: Datasheet; ComponentLink2URL: http://www.ti.com/general/docs/lit/getliterature.tsp?genericPartNumber=MSP430F6720&fileType=pdf; ComponentLink3Description: Package Specification; ComponentLink3URL: http://www.ti.com/lit/ml/mtqf010a/mtqf010a.pdf
footprint TI-PN80_N (QFP, 80-Leads, Body 12x12mm, Pitch 0.5mm, IPC Medium Density)
pins: 1 SD0P0 (in) "SD24_B positive analog input for converter 0", 2 SD0N0 (in) "SD24_B negative analog input for converter 0", 3 SD1P0 (in) "SD24_B positive analog input for converter 1", 4 SD1N0 (in) "SD24_B negative analog input for converter 1", 5 NC, 6 NC, 7 VREF "SD24_B external reference voltage", 8 AVSS (power) "Analog ground supply", 9 AVCC (power) "Analog power supply", 10 VASYS (power) "Analog power supply selected between AVCC, AUXVCC1, AUXVCC2. Connect recommended capacitor value of CVSYS", 11 P1.0/PM_TA0.0/VEREF-/A2 (io), 12 P1.1/PM_TA0.1/VEREF+/A1 (io), 13 P1.2/PM_UCA0RXD/PM_UCA0SOMI/A0 (io), 14 P1.3/PM_UCA0TXD/PM_UCA0SIMO/R03 (io), 15 AUXVCC2 (power) "Auxiliary power supply AUXVCC2", 16 AUXVCC1 (power) "Auxiliary power supply AUXVCC1", 17 VDSYS (power) "Digital power supply selected between DVCC, AUXVCC1, AUXVCC2. Connect recommended capacitor value of CVSYS", 18 DVCC (power) "Digital power supply", 19 DVSS (power) "Digital ground supply", 20 VCORE "Regulated core power supply (internal use only, no external current loading)", 21 XIN "Input terminal for crystal oscillator", 22 XOUT "Output terminal for crystal oscillator", 23 AUXVCC3 (power) "Auxiliary power supply AUXVCC3 for back up subsystem", 24 P1.4/PM_UCA1RXD/PM_UCA1SOMI/LCDREF/R13 (io), 25 P1.5/PM_UCA1TXD/PM_UCA1SIMO/R23 (io), 26 LCDCAP/R33, 27 COM0 (out) "LCD common output COM0 for LCD backplane", 28 COM1 (out) "LCD common output COM1 for LCD backplane", 29 COM2 (out) "LCD common output COM2 for LCD backplane", 30 COM3 (out) "LCD common output COM3 for LCD backplane", 31 P1.6/PM_UCA0CLK/COM4 (io), 32 P1.7/PM_UCB0CLK/COM5 (io), 33 P2.0/PM_UCB0SOMI/PM_UCB0SCL/COM6/S39 (io), 34 P2.1/PM_UCB0SIMO/PM_UCB0SDA/COM7/S38 (io), 35 P2.2/PM_UCA2RXD/PM_UCA2SOMI/S37 (io), 36 P2.3/PM_UCA2TXD/PM_UCA2SIMO/S36 (io), 37 P2.4/PM_UCA1CLK/S35 (io), 38 P2.5/PM_UCA2CLK/S34 (io), 39 P2.6/PM_TA1.0/S33 (io), 40 P2.7/PM_TA1.1/S32 (io), 41 P3.0/PM_TA2.0/S31/BSL_TX (io), 42 P3.1/PM_TA2.1/S30/BSL_RX (io), 43 P3.2/PM_TACLK/PM_RTCCLK/S29 (io), 44 P3.3/PM_TA0.2/S28 (io), 45 P3.4/PM_SDCLK/S27 (io), 46 P3.5/PM_SD0DIO/S26 (io), 47 P3.6/PM_SD1DIO/S25 (io), 48 P3.7/PM_NONE/S24 (io), 49 P4.0/S23 (io), 50 P4.1/S22 (io), 51 P4.2/S21 (io), 52 P4.3/S20 (io), 53 P4.4/S19 (io), 54 P4.5/S18 (io), 55 P4.6/S17 (io), 56 P4.7/S16 (io), 57 P5.0/S15 (io), 58 P5.1/S14 (io), 59 DVSYS (power) "Digital power supply for I/Os", 60 DVSS (power) "Digital ground supply", 61 P5.2/S13 (io), 62 P5.3/S12 (io), 63 P5.4/S11 (io), 64 P5.5/S10 (io), 65 P5.6/S9 (io), 66 P5.7/S8 (io), 67 P6.0/S7 (io), 68 P6.1/S6 (io), 69 P6.2/S5 (io), 70 P6.3/S4 (io), 71 P6.4/S3 (io), 72 P6.5/S2 (io), 73 P6.6/S1 (io), 74 P6.7/S0 (io), 75 TEST/SBWTCK (in), 76 PJ.0/SMCLK/TDO (io), 77 PJ.1/MCLK/TDI/TCLK (io), 78 PJ.2/ADC10CLK/TMS (io), 79 PJ.3/ACLK/TCK (io), 80 ~{RST}/NMI/SBWTDIO (io)

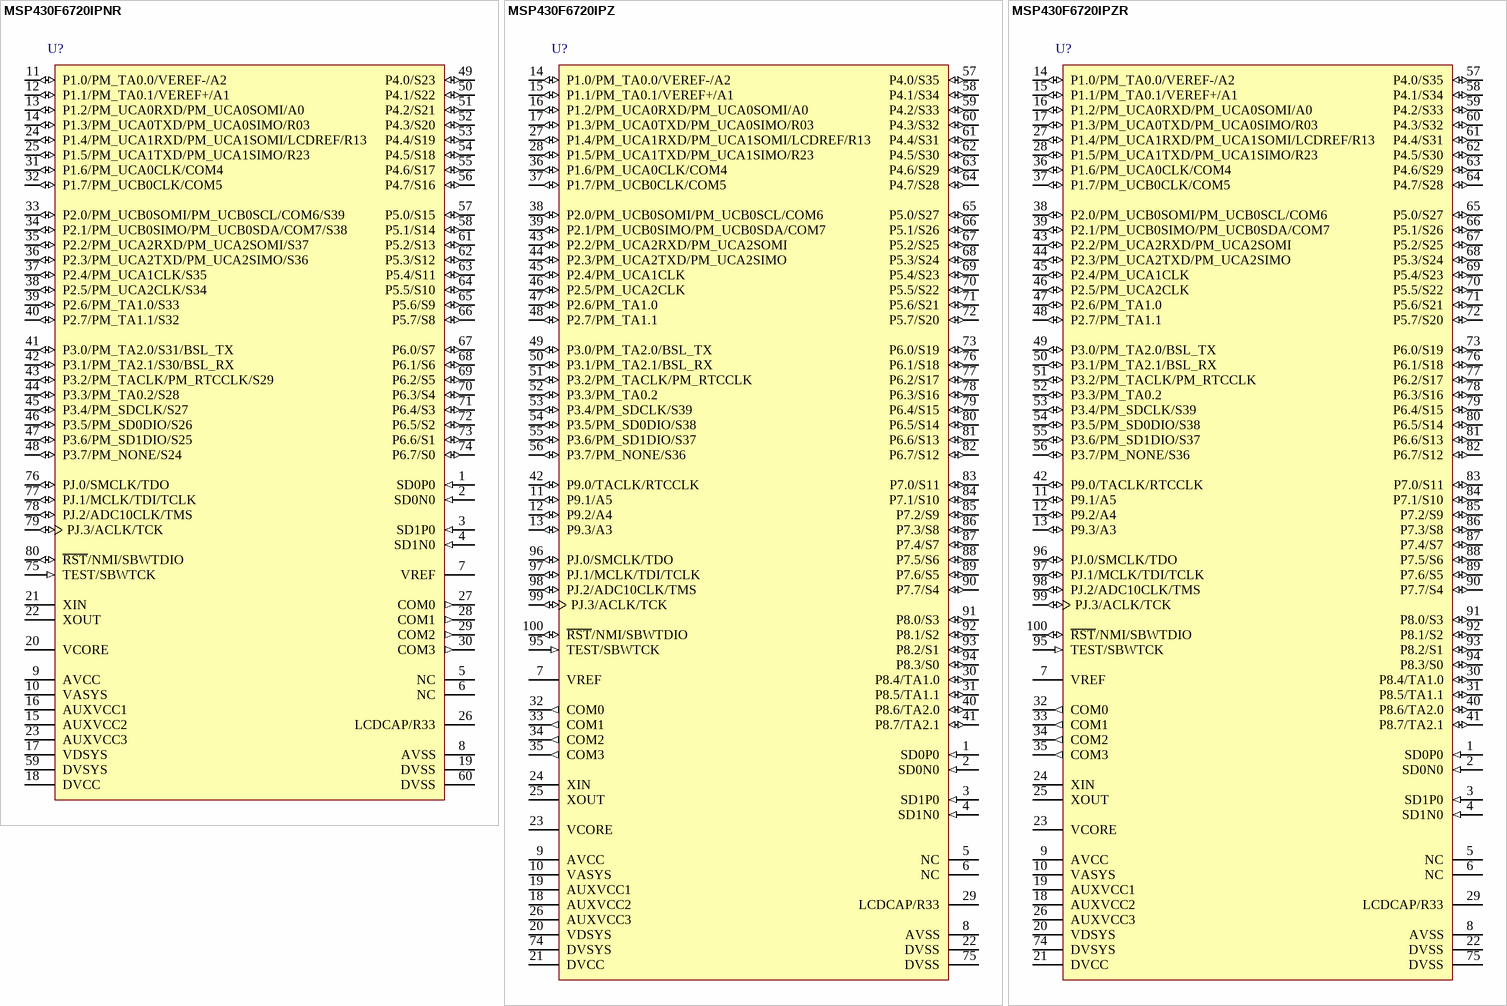
[diagram p156: symbols MSP430F6720IPNR to MSP430F6720IPZR]

## MSP430F6720IPNR
designator U?
25 MHz Mixed Signal Microcontroller with 16 KB Flash, 1024 B SRAM and 72 GPIOs, -40 to 85 degC, 80-pin QFP (PN), Green (RoHS & no Sb/Br); Manufacturer: Texas Instruments; PartNumber: MSP430F6720IPNR; ADC: 10-bit SAR; ADC Channels: 8; Brown Out Reset: Yes; DMA: 3; Flash(KB): 16; Frequency(MHz): 25; GPIO: 72; LCD Segments: 320; Multiplier: 32x32; Real-Time Clock: Yes, with battery backup; SRAM(B): 1024; SubFamily: 6 Series with LCD; Timers - 16-bit: 4; USCI_B (I2C & SPI): 1; DatasheetVersion: SLAS731B; PackageReference: PN80; PackageDescription: 80-Pin Plastic Quad Flat Pack, Body 12 x 12 mm, Pitch 0.5 mm; Supplier 1: Digi-Key; Supplier Part Number 1: 296-30415-ND; Supplier 2: Newark; Supplier Part Number 2: 76T6245; Supplier 3: Mouser; Supplier Part Number 3: 595-MSP430F6720IPN; Eco-Plan: Green (RoHS & no Sb/Br); Temp Sensor: Yes; USCI_A (UART/LIN/IrDA/SPI): 3; Watchdog: Yes; Mounting Technology: Surface Mount; Code_JEDEC: MS-018; ComponentLink1Description: Manufacturer URL; ComponentLink1URL: http://www.ti.com/; ComponentLink2Description: Datasheet; ComponentLink2URL: http://www.ti.com/general/docs/lit/getliterature.tsp?genericPartNumber=MSP430F6720&fileType=pdf; ComponentLink3Description: Package Specification; ComponentLink3URL: http://www.ti.com/lit/ml/mtqf010a/mtqf010a.pdf
footprint TI-PN80_N (QFP, 80-Leads, Body 12x12mm, Pitch 0.5mm, IPC Medium Density)
pins: 1 SD0P0 (in) "SD24_B positive analog input for converter 0", 2 SD0N0 (in) "SD24_B negative analog input for converter 0", 3 SD1P0 (in) "SD24_B positive analog input for converter 1", 4 SD1N0 (in) "SD24_B negative analog input for converter 1", 5 NC, 6 NC, 7 VREF "SD24_B external reference voltage", 8 AVSS (power) "Analog ground supply", 9 AVCC (power) "Analog power supply", 10 VASYS (power) "Analog power supply selected between AVCC, AUXVCC1, AUXVCC2. Connect recommended capacitor value of CVSYS", 11 P1.0/PM_TA0.0/VEREF-/A2 (io), 12 P1.1/PM_TA0.1/VEREF+/A1 (io), 13 P1.2/PM_UCA0RXD/PM_UCA0SOMI/A0 (io), 14 P1.3/PM_UCA0TXD/PM_UCA0SIMO/R03 (io), 15 AUXVCC2 (power) "Auxiliary power supply AUXVCC2", 16 AUXVCC1 (power) "Auxiliary power supply AUXVCC1", 17 VDSYS (power) "Digital power supply selected between DVCC, AUXVCC1, AUXVCC2. Connect recommended capacitor value of CVSYS", 18 DVCC (power) "Digital power supply", 19 DVSS (power) "Digital ground supply", 20 VCORE "Regulated core power supply (internal use only, no external current loading)", 21 XIN "Input terminal for crystal oscillator", 22 XOUT "Output terminal for crystal oscillator", 23 AUXVCC3 (power) "Auxiliary power supply AUXVCC3 for back up subsystem", 24 P1.4/PM_UCA1RXD/PM_UCA1SOMI/LCDREF/R13 (io), 25 P1.5/PM_UCA1TXD/PM_UCA1SIMO/R23 (io), 26 LCDCAP/R33, 27 COM0 (out) "LCD common output COM0 for LCD backplane", 28 COM1 (out) "LCD common output COM1 for LCD backplane", 29 COM2 (out) "LCD common output COM2 for LCD backplane", 30 COM3 (out) "LCD common output COM3 for LCD backplane", 31 P1.6/PM_UCA0CLK/COM4 (io), 32 P1.7/PM_UCB0CLK/COM5 (io), 33 P2.0/PM_UCB0SOMI/PM_UCB0SCL/COM6/S39 (io), 34 P2.1/PM_UCB0SIMO/PM_UCB0SDA/COM7/S38 (io), 35 P2.2/PM_UCA2RXD/PM_UCA2SOMI/S37 (io), 36 P2.3/PM_UCA2TXD/PM_UCA2SIMO/S36 (io), 37 P2.4/PM_UCA1CLK/S35 (io), 38 P2.5/PM_UCA2CLK/S34 (io), 39 P2.6/PM_TA1.0/S33 (io), 40 P2.7/PM_TA1.1/S32 (io), 41 P3.0/PM_TA2.0/S31/BSL_TX (io), 42 P3.1/PM_TA2.1/S30/BSL_RX (io), 43 P3.2/PM_TACLK/PM_RTCCLK/S29 (io), 44 P3.3/PM_TA0.2/S28 (io), 45 P3.4/PM_SDCLK/S27 (io), 46 P3.5/PM_SD0DIO/S26 (io), 47 P3.6/PM_SD1DIO/S25 (io), 48 P3.7/PM_NONE/S24 (io), 49 P4.0/S23 (io), 50 P4.1/S22 (io), 51 P4.2/S21 (io), 52 P4.3/S20 (io), 53 P4.4/S19 (io), 54 P4.5/S18 (io), 55 P4.6/S17 (io), 56 P4.7/S16 (io), 57 P5.0/S15 (io), 58 P5.1/S14 (io), 59 DVSYS (power) "Digital power supply for I/Os", 60 DVSS (power) "Digital ground supply", 61 P5.2/S13 (io), 62 P5.3/S12 (io), 63 P5.4/S11 (io), 64 P5.5/S10 (io), 65 P5.6/S9 (io), 66 P5.7/S8 (io), 67 P6.0/S7 (io), 68 P6.1/S6 (io), 69 P6.2/S5 (io), 70 P6.3/S4 (io), 71 P6.4/S3 (io), 72 P6.5/S2 (io), 73 P6.6/S1 (io), 74 P6.7/S0 (io), 75 TEST/SBWTCK (in), 76 PJ.0/SMCLK/TDO (io), 77 PJ.1/MCLK/TDI/TCLK (io), 78 PJ.2/ADC10CLK/TMS (io), 79 PJ.3/ACLK/TCK (io), 80 ~{RST}/NMI/SBWTDIO (io)

## MSP430F6720IPZ
designator U?
25 MHz Mixed Signal Microcontroller with 16 KB Flash, 1024 B SRAM and 72 GPIOs, -40 to 85 degC, 100-pin QFP (PZ), Green (RoHS & no Sb/Br); Manufacturer: Texas Instruments; PartNumber: MSP430F6720IPZ; ADC: 10-bit SAR; ADC Channels: 8; Brown Out Reset: Yes; DMA: 3; Flash(KB): 16; Frequency(MHz): 25; GPIO: 72; LCD Segments: 320; Multiplier: 32x32; Real-Time Clock: Yes, with battery backup; SRAM(B): 1024; SubFamily: 6 Series with LCD; Timers - 16-bit: 4; USCI_B (I2C & SPI): 1; DatasheetVersion: SLAS731B; PackageVersion: 4040149/B; PackageReference: PZ100; PackageDescription: 100-Pin Plastic Flat Pack, Body 14 x 14 mm, Pitch 0.5 mm; Supplier 1: Digi-Key; Supplier Part Number 1: MSP430F6720IPNR-ND; Supplier 2: Newark; Supplier Part Number 2: 76T6246; Supplier 3: Mouser; Supplier Part Number 3: 595-MSP430F6720IPNR; Eco-Plan: Green (RoHS & no Sb/Br); Temp Sensor: Yes; USCI_A (UART/LIN/IrDA/SPI): 3; Watchdog: Yes; Mounting Technology: Surface Mount; Code_JEDEC: MS-026; ComponentLink1Description: Manufacturer URL; ComponentLink1URL: http://www.ti.com/; ComponentLink2Description: Datasheet; ComponentLink2URL: http://www.ti.com/general/docs/lit/getliterature.tsp?genericPartNumber=MSP430F6720&fileType=pdf; ComponentLink3Description: Package Specification; ComponentLink3URL: http://www.ti.com/lit/ml/mtqf013a/mtqf013a.pdf
footprint TI-PZ100_N (QFP, 100-Leads, Body 14x14mm, Pitch 0.5mm, IPC Medium Density)
pins: 1 SD0P0 (in) "SD24_B positive analog input for converter 0", 2 SD0N0 (in) "SD24_B negative analog input for converter 0", 3 SD1P0 (in) "SD24_B positive analog input for converter 1", 4 SD1N0 (in) "SD24_B negative analog input for converter 1", 5 NC "No internal connection", 6 NC "No internal connection", 7 VREF "SD24_B external reference voltage", 8 AVSS (power) "Analog ground supply", 9 AVCC (power) "Analog power supply", 10 VASYS (power) "Analog power supply selected between AVCC, AUXVCC1, AUXVCC2. Connect recommended capacitor value of CVSYS", 11 P9.1/A5 (io), 12 P9.2/A4 (io), 13 P9.3/A3 (io), 14 P1.0/PM_TA0.0/VEREF-/A2 (io), 15 P1.1/PM_TA0.1/VEREF+/A1 (io), 16 P1.2/PM_UCA0RXD/PM_UCA0SOMI/A0 (io), 17 P1.3/PM_UCA0TXD/PM_UCA0SIMO/R03 (io), 18 AUXVCC2 (power) "Auxiliary power supply AUXVCC2", 19 AUXVCC1 (power) "Auxiliary power supply AUXVCC1", 20 VDSYS (power) "Digital power supply selected between DVCC, AUXVCC1, AUXVCC2. Connect recommended capacitor value of CVSYS", 21 DVCC (power) "Digital power supply", 22 DVSS (power) "Digital ground supply", 23 VCORE "Regulated core power supply (internal use only, no external current loading)", 24 XIN "Input terminal for crystal oscillator", 25 XOUT "Output terminal for crystal oscillator", 26 AUXVCC3 (power) "Auxiliary power supply AUXVCC3 for back up subsystem", 27 P1.4/PM_UCA1RXD/PM_UCA1SOMI/LCDREF/R13 (io), 28 P1.5/PM_UCA1TXD/PM_UCA1SIMO/R23 (io), 29 LCDCAP/R33, 30 P8.4/TA1.0 (io), 31 P8.5/TA1.1 (io), 32 COM0 (out) "LCD common output COM0 for LCD backplane", 33 COM1 (out) "LCD common output COM1 for LCD backplane", 34 COM2 (out) "LCD common output COM2 for LCD backplane", 35 COM3 (out) "LCD common output COM3 for LCD backplane", 36 P1.6/PM_UCA0CLK/COM4 (io), 37 P1.7/PM_UCB0CLK/COM5 (io), 38 P2.0/PM_UCB0SOMI/PM_UCB0SCL/COM6 (io), 39 P2.1/PM_UCB0SIMO/PM_UCB0SDA/COM7 (io), 40 P8.6/TA2.0 (io), 41 P8.7/TA2.1 (io), 42 P9.0/TACLK/RTCCLK (io), 43 P2.2/PM_UCA2RXD/PM_UCA2SOMI (io), 44 P2.3/PM_UCA2TXD/PM_UCA2SIMO (io), 45 P2.4/PM_UCA1CLK (io), 46 P2.5/PM_UCA2CLK (io), 47 P2.6/PM_TA1.0 (io), 48 P2.7/PM_TA1.1 (io), 49 P3.0/PM_TA2.0/BSL_TX (io), 50 P3.1/PM_TA2.1/BSL_RX (io), 51 P3.2/PM_TACLK/PM_RTCCLK (io), 52 P3.3/PM_TA0.2 (io), 53 P3.4/PM_SDCLK/S39 (io), 54 P3.5/PM_SD0DIO/S38 (io), 55 P3.6/PM_SD1DIO/S37 (io), 56 P3.7/PM_NONE/S36 (io), 57 P4.0/S35 (io), 58 P4.1/S34 (io), 59 P4.2/S33 (io), 60 P4.3/S32 (io), 61 P4.4/S31 (io), 62 P4.5/S30 (io), 63 P4.6/S29 (io), 64 P4.7/S28 (io), 65 P5.0/S27 (io), 66 P5.1/S26 (io), 67 P5.2/S25 (io), 68 P5.3/S24 (io), 69 P5.4/S23 (io), 70 P5.5/S22 (io), 71 P5.6/S21 (io), 72 P5.7/S20 (io), 73 P6.0/S19 (io), 74 DVSYS (power) "Digital power supply for I/Os", 75 DVSS (power) "Digital ground supply", 76 P6.1/S18 (io), 77 P6.2/S17 (io), 78 P6.3/S16 (io), 79 P6.4/S15 (io), 80 P6.5/S14 (io), 81 P6.6/S13 (io), 82 P6.7/S12 (io), 83 P7.0/S11 (io), 84 P7.1/S10 (io), 85 P7.2/S9 (io), 86 P7.3/S8 (io), 87 P7.4/S7 (io), 88 P7.5/S6 (io), 89 P7.6/S5 (io), 90 P7.7/S4 (io), 91 P8.0/S3 (io), 92 P8.1/S2 (io), 93 P8.2/S1 (io), 94 P8.3/S0 (io), 95 TEST/SBWTCK (in), 96 PJ.0/SMCLK/TDO (io), 97 PJ.1/MCLK/TDI/TCLK (io), 98 PJ.2/ADC10CLK/TMS (io), 99 PJ.3/ACLK/TCK (io), 100 ~{RST}/NMI/SBWTDIO (io)

## MSP430F6720IPZR
designator U?
25 MHz Mixed Signal Microcontroller with 16 KB Flash, 1024 B SRAM and 72 GPIOs, -40 to 85 degC, 100-pin QFP (PZ), Green (RoHS & no Sb/Br); Manufacturer: Texas Instruments; PartNumber: MSP430F6720IPZR; ADC: 10-bit SAR; ADC Channels: 8; Brown Out Reset: Yes; DMA: 3; Flash(KB): 16; Frequency(MHz): 25; GPIO: 72; LCD Segments: 320; Multiplier: 32x32; Real-Time Clock: Yes, with battery backup; SRAM(B): 1024; SubFamily: 6 Series with LCD; Timers - 16-bit: 4; USCI_B (I2C & SPI): 1; DatasheetVersion: SLAS731B; PackageVersion: 4040149/B; PackageReference: PZ100; PackageDescription: 100-Pin Plastic Flat Pack, Body 14 x 14 mm, Pitch 0.5 mm; Supplier 1: Digi-Key; Supplier Part Number 1: 296-30417-ND; Supplier 2: Newark; Supplier Part Number 2: 76T6247; Supplier 3: Mouser; Supplier Part Number 3: 595-MSP430F6720IPZ; Eco-Plan: Green (RoHS & no Sb/Br); Temp Sensor: Yes; USCI_A (UART/LIN/IrDA/SPI): 3; Watchdog: Yes; Mounting Technology: Surface Mount; Code_JEDEC: MS-026; ComponentLink1Description: Manufacturer URL; ComponentLink1URL: http://www.ti.com/; ComponentLink2Description: Datasheet; ComponentLink2URL: http://www.ti.com/general/docs/lit/getliterature.tsp?genericPartNumber=MSP430F6720&fileType=pdf; ComponentLink3Description: Package Specification; ComponentLink3URL: http://www.ti.com/lit/ml/mtqf013a/mtqf013a.pdf
footprint TI-PZ100_N (QFP, 100-Leads, Body 14x14mm, Pitch 0.5mm, IPC Medium Density)
pins: 1 SD0P0 (in) "SD24_B positive analog input for converter 0", 2 SD0N0 (in) "SD24_B negative analog input for converter 0", 3 SD1P0 (in) "SD24_B positive analog input for converter 1", 4 SD1N0 (in) "SD24_B negative analog input for converter 1", 5 NC "No internal connection", 6 NC "No internal connection", 7 VREF "SD24_B external reference voltage", 8 AVSS (power) "Analog ground supply", 9 AVCC (power) "Analog power supply", 10 VASYS (power) "Analog power supply selected between AVCC, AUXVCC1, AUXVCC2. Connect recommended capacitor value of CVSYS", 11 P9.1/A5 (io), 12 P9.2/A4 (io), 13 P9.3/A3 (io), 14 P1.0/PM_TA0.0/VEREF-/A2 (io), 15 P1.1/PM_TA0.1/VEREF+/A1 (io), 16 P1.2/PM_UCA0RXD/PM_UCA0SOMI/A0 (io), 17 P1.3/PM_UCA0TXD/PM_UCA0SIMO/R03 (io), 18 AUXVCC2 (power) "Auxiliary power supply AUXVCC2", 19 AUXVCC1 (power) "Auxiliary power supply AUXVCC1", 20 VDSYS (power) "Digital power supply selected between DVCC, AUXVCC1, AUXVCC2. Connect recommended capacitor value of CVSYS", 21 DVCC (power) "Digital power supply", 22 DVSS (power) "Digital ground supply", 23 VCORE "Regulated core power supply (internal use only, no external current loading)", 24 XIN "Input terminal for crystal oscillator", 25 XOUT "Output terminal for crystal oscillator", 26 AUXVCC3 (power) "Auxiliary power supply AUXVCC3 for back up subsystem", 27 P1.4/PM_UCA1RXD/PM_UCA1SOMI/LCDREF/R13 (io), 28 P1.5/PM_UCA1TXD/PM_UCA1SIMO/R23 (io), 29 LCDCAP/R33, 30 P8.4/TA1.0 (io), 31 P8.5/TA1.1 (io), 32 COM0 (out) "LCD common output COM0 for LCD backplane", 33 COM1 (out) "LCD common output COM1 for LCD backplane", 34 COM2 (out) "LCD common output COM2 for LCD backplane", 35 COM3 (out) "LCD common output COM3 for LCD backplane", 36 P1.6/PM_UCA0CLK/COM4 (io), 37 P1.7/PM_UCB0CLK/COM5 (io), 38 P2.0/PM_UCB0SOMI/PM_UCB0SCL/COM6 (io), 39 P2.1/PM_UCB0SIMO/PM_UCB0SDA/COM7 (io), 40 P8.6/TA2.0 (io), 41 P8.7/TA2.1 (io), 42 P9.0/TACLK/RTCCLK (io), 43 P2.2/PM_UCA2RXD/PM_UCA2SOMI (io), 44 P2.3/PM_UCA2TXD/PM_UCA2SIMO (io), 45 P2.4/PM_UCA1CLK (io), 46 P2.5/PM_UCA2CLK (io), 47 P2.6/PM_TA1.0 (io), 48 P2.7/PM_TA1.1 (io), 49 P3.0/PM_TA2.0/BSL_TX (io), 50 P3.1/PM_TA2.1/BSL_RX (io), 51 P3.2/PM_TACLK/PM_RTCCLK (io), 52 P3.3/PM_TA0.2 (io), 53 P3.4/PM_SDCLK/S39 (io), 54 P3.5/PM_SD0DIO/S38 (io), 55 P3.6/PM_SD1DIO/S37 (io), 56 P3.7/PM_NONE/S36 (io), 57 P4.0/S35 (io), 58 P4.1/S34 (io), 59 P4.2/S33 (io), 60 P4.3/S32 (io), 61 P4.4/S31 (io), 62 P4.5/S30 (io), 63 P4.6/S29 (io), 64 P4.7/S28 (io), 65 P5.0/S27 (io), 66 P5.1/S26 (io), 67 P5.2/S25 (io), 68 P5.3/S24 (io), 69 P5.4/S23 (io), 70 P5.5/S22 (io), 71 P5.6/S21 (io), 72 P5.7/S20 (io), 73 P6.0/S19 (io), 74 DVSYS (power) "Digital power supply for I/Os", 75 DVSS (power) "Digital ground supply", 76 P6.1/S18 (io), 77 P6.2/S17 (io), 78 P6.3/S16 (io), 79 P6.4/S15 (io), 80 P6.5/S14 (io), 81 P6.6/S13 (io), 82 P6.7/S12 (io), 83 P7.0/S11 (io), 84 P7.1/S10 (io), 85 P7.2/S9 (io), 86 P7.3/S8 (io), 87 P7.4/S7 (io), 88 P7.5/S6 (io), 89 P7.6/S5 (io), 90 P7.7/S4 (io), 91 P8.0/S3 (io), 92 P8.1/S2 (io), 93 P8.2/S1 (io), 94 P8.3/S0 (io), 95 TEST/SBWTCK (in), 96 PJ.0/SMCLK/TDO (io), 97 PJ.1/MCLK/TDI/TCLK (io), 98 PJ.2/ADC10CLK/TMS (io), 99 PJ.3/ACLK/TCK (io), 100 ~{RST}/NMI/SBWTDIO (io)

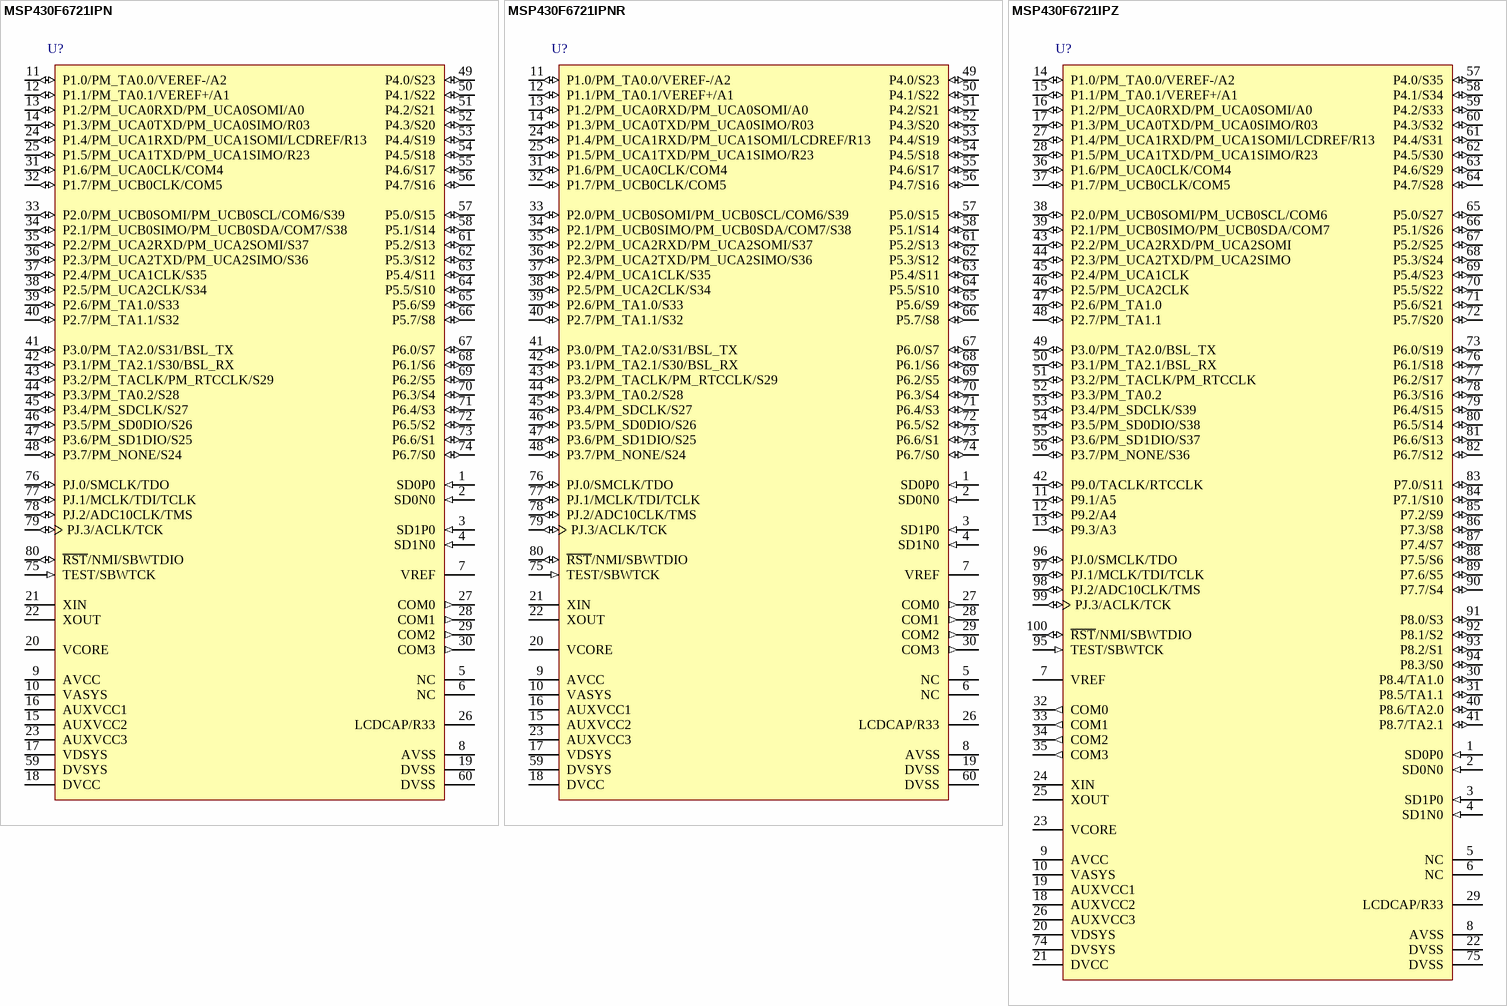
[diagram p157: symbols MSP430F6721IPN to MSP430F6721IPZ]

## MSP430F6721IPN
designator U?
25 MHz Mixed Signal Microcontroller with 32 KB Flash, 2048 B SRAM and 72 GPIOs, -40 to 85 degC, 80-pin QFP (PN), Green (RoHS & no Sb/Br); Manufacturer: Texas Instruments; PartNumber: MSP430F6721IPN; ADC: 10-bit SAR; ADC Channels: 8; Brown Out Reset: Yes; DMA: 3; Flash(KB): 32; Frequency(MHz): 25; GPIO: 72; LCD Segments: 320; Multiplier: 32x32; Real-Time Clock: Yes, with battery backup; SRAM(B): 2048; SubFamily: 6 Series with LCD; Timers - 16-bit: 4; USCI_B (I2C & SPI): 1; DatasheetVersion: SLAS731B; PackageReference: PN80; PackageDescription: 80-Pin Plastic Quad Flat Pack, Body 12 x 12 mm, Pitch 0.5 mm; Supplier 1: Digi-Key; Supplier Part Number 1: MSP430F6720IPZR-ND; Supplier 2: Newark; Supplier Part Number 2: 76T6248; Supplier 3: Mouser; Supplier Part Number 3: 595-MSP430F6720IPZR; Eco-Plan: Green (RoHS & no Sb/Br); Temp Sensor: Yes; USCI_A (UART/LIN/IrDA/SPI): 3; Watchdog: Yes; Mounting Technology: Surface Mount; Code_JEDEC: MS-018; ComponentLink1Description: Manufacturer URL; ComponentLink1URL: http://www.ti.com/; ComponentLink2Description: Datasheet; ComponentLink2URL: http://www.ti.com/general/docs/lit/getliterature.tsp?genericPartNumber=MSP430F6721&fileType=pdf; ComponentLink3Description: Package Specification; ComponentLink3URL: http://www.ti.com/lit/ml/mtqf010a/mtqf010a.pdf
footprint TI-PN80_N (QFP, 80-Leads, Body 12x12mm, Pitch 0.5mm, IPC Medium Density)
pins: 1 SD0P0 (in) "SD24_B positive analog input for converter 0", 2 SD0N0 (in) "SD24_B negative analog input for converter 0", 3 SD1P0 (in) "SD24_B positive analog input for converter 1", 4 SD1N0 (in) "SD24_B negative analog input for converter 1", 5 NC, 6 NC, 7 VREF "SD24_B external reference voltage", 8 AVSS (power) "Analog ground supply", 9 AVCC (power) "Analog power supply", 10 VASYS (power) "Analog power supply selected between AVCC, AUXVCC1, AUXVCC2. Connect recommended capacitor value of CVSYS", 11 P1.0/PM_TA0.0/VEREF-/A2 (io), 12 P1.1/PM_TA0.1/VEREF+/A1 (io), 13 P1.2/PM_UCA0RXD/PM_UCA0SOMI/A0 (io), 14 P1.3/PM_UCA0TXD/PM_UCA0SIMO/R03 (io), 15 AUXVCC2 (power) "Auxiliary power supply AUXVCC2", 16 AUXVCC1 (power) "Auxiliary power supply AUXVCC1", 17 VDSYS (power) "Digital power supply selected between DVCC, AUXVCC1, AUXVCC2. Connect recommended capacitor value of CVSYS", 18 DVCC (power) "Digital power supply", 19 DVSS (power) "Digital ground supply", 20 VCORE "Regulated core power supply (internal use only, no external current loading)", 21 XIN "Input terminal for crystal oscillator", 22 XOUT "Output terminal for crystal oscillator", 23 AUXVCC3 (power) "Auxiliary power supply AUXVCC3 for back up subsystem", 24 P1.4/PM_UCA1RXD/PM_UCA1SOMI/LCDREF/R13 (io), 25 P1.5/PM_UCA1TXD/PM_UCA1SIMO/R23 (io), 26 LCDCAP/R33, 27 COM0 (out) "LCD common output COM0 for LCD backplane", 28 COM1 (out) "LCD common output COM1 for LCD backplane", 29 COM2 (out) "LCD common output COM2 for LCD backplane", 30 COM3 (out) "LCD common output COM3 for LCD backplane", 31 P1.6/PM_UCA0CLK/COM4 (io), 32 P1.7/PM_UCB0CLK/COM5 (io), 33 P2.0/PM_UCB0SOMI/PM_UCB0SCL/COM6/S39 (io), 34 P2.1/PM_UCB0SIMO/PM_UCB0SDA/COM7/S38 (io), 35 P2.2/PM_UCA2RXD/PM_UCA2SOMI/S37 (io), 36 P2.3/PM_UCA2TXD/PM_UCA2SIMO/S36 (io), 37 P2.4/PM_UCA1CLK/S35 (io), 38 P2.5/PM_UCA2CLK/S34 (io), 39 P2.6/PM_TA1.0/S33 (io), 40 P2.7/PM_TA1.1/S32 (io), 41 P3.0/PM_TA2.0/S31/BSL_TX (io), 42 P3.1/PM_TA2.1/S30/BSL_RX (io), 43 P3.2/PM_TACLK/PM_RTCCLK/S29 (io), 44 P3.3/PM_TA0.2/S28 (io), 45 P3.4/PM_SDCLK/S27 (io), 46 P3.5/PM_SD0DIO/S26 (io), 47 P3.6/PM_SD1DIO/S25 (io), 48 P3.7/PM_NONE/S24 (io), 49 P4.0/S23 (io), 50 P4.1/S22 (io), 51 P4.2/S21 (io), 52 P4.3/S20 (io), 53 P4.4/S19 (io), 54 P4.5/S18 (io), 55 P4.6/S17 (io), 56 P4.7/S16 (io), 57 P5.0/S15 (io), 58 P5.1/S14 (io), 59 DVSYS (power) "Digital power supply for I/Os", 60 DVSS (power) "Digital ground supply", 61 P5.2/S13 (io), 62 P5.3/S12 (io), 63 P5.4/S11 (io), 64 P5.5/S10 (io), 65 P5.6/S9 (io), 66 P5.7/S8 (io), 67 P6.0/S7 (io), 68 P6.1/S6 (io), 69 P6.2/S5 (io), 70 P6.3/S4 (io), 71 P6.4/S3 (io), 72 P6.5/S2 (io), 73 P6.6/S1 (io), 74 P6.7/S0 (io), 75 TEST/SBWTCK (in), 76 PJ.0/SMCLK/TDO (io), 77 PJ.1/MCLK/TDI/TCLK (io), 78 PJ.2/ADC10CLK/TMS (io), 79 PJ.3/ACLK/TCK (io), 80 ~{RST}/NMI/SBWTDIO (io)